# EAGLE library part SLVU2.8-4A1 (library st-microelectronics)
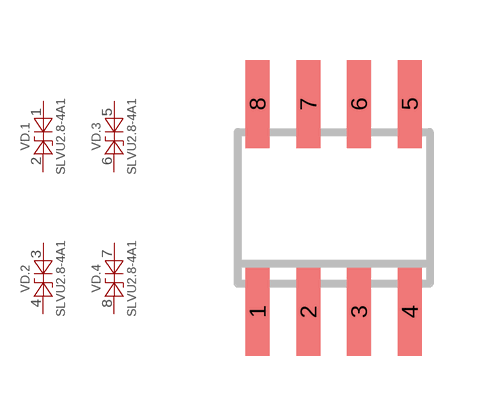
[diagram p16: symbol with the pads of SO08; footprint SO08]

Designator prefix VD; gates .1=SLVU2.8-4A1 .2=SLVU2.8-4A1 .3=SLVU2.8-4A1 .4=SLVU2.8-4A1

## SLVU2.8-4A1  [SO08]
1  .1:1  pas
2  .1:2  pas
3  .2:1  pas
4  .2:2  pas
5  .3:1  pas
6  .3:2  pas
7  .4:1  pas
8  .4:2  pas

## Footprint SO08 (pad centres in mm)
SMALL OUTLINE INTEGRATED CIRCUIT body 3.9 mm/JEDEC MS-012AA
smd 0.6 x 2.2: 1 -1.905,-2.6; 2 -0.635,-2.6; 3 0.635,-2.6; 4 1.905,-2.6; 5 1.905,2.6; 6 0.635,2.6; 7 -0.635,2.6; 8 -1.905,2.6